# EAGLE library part FDS8958B (library FDS8958B)
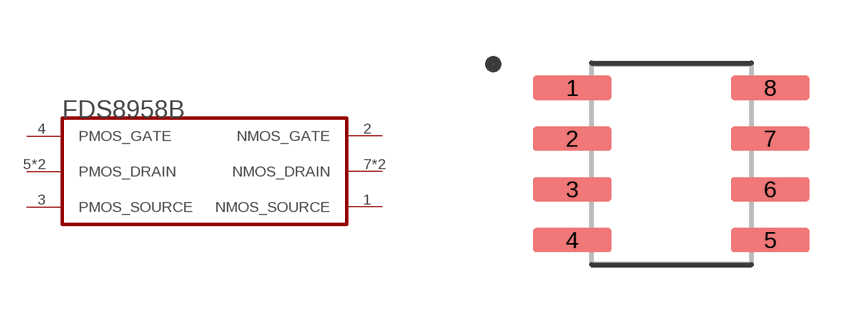
[diagram p0: symbol with the pads of SOIC127P600X175-8N; footprint SOIC127P600X175-8N]

Designator prefix -

## FDS8958B  [SOIC127P600X175-8N]
1  NMOS_SOURCE
2  NMOS_GATE
3  PMOS_SOURCE
4  PMOS_GATE
5  PMOS_DRAIN
6  PMOS_DRAIN
7  NMOS_DRAIN
8  NMOS_DRAIN

## Footprint SOIC127P600X175-8N (pad centres in mm)
smd 1.97 x 0.6: 1 -2.475,1.905; 2 -2.475,0.635; 3 -2.475,-0.635; 4 -2.475,-1.905; 5 2.475,-1.905; 6 2.475,-0.635; 7 2.475,0.635; 8 2.475,1.905